# Altium integrated library BLM03PX330SZ1D.IntLib: 1 symbol
Pins are listed as number, name and electrical type; pins without a type are passive.

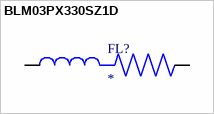
[diagram p0: symbol BLM03PX330SZ1D]

## BLM03PX330SZ1D
designator FL?
33 Ohms @ 100 MHz 1 Power Line Ferrite Bead 0201 (0603 Metric) 1.5A 55mOhm; MF: Murata; MP: BLM03PX330SZ1D; SnapEDA_Link: https://www.snapeda.com/parts/BLM03PX330SZ1D/Murata/view-part/?ref=snap; Package: 0603 Murata; Value: *; Check_prices: https://www.snapeda.com/parts/BLM03PX330SZ1D/Murata/view-part/?ref=eda
footprint BEADC0603X33N
pins: 1, 2